# EAGLE library part AG9800 (library SKAARHOJ)
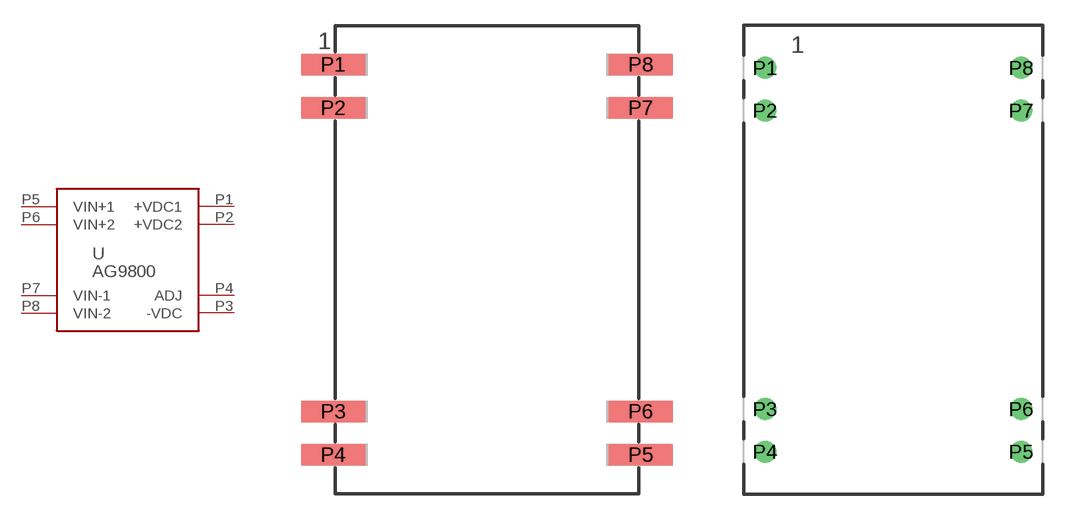
[diagram p59: symbol with the pads of AG9800; footprints AG9800, AG9800PTH]

Designator prefix -

## AG9800  [AG9800]
P1  +VDC1
P2  +VDC2
P3  -VDC
P4  ADJ  in
P5  VIN+1  pwr
P6  VIN+2  pwr
P7  VIN-1  pwr
P8  VIN-2  pwr

## AG9800PTH  [AG9800PTH]
Pads as for AG9800

## Footprint AG9800 (pad centres in mm)
smd 3.75 x 1.25: P1 -9,11.43; P2 -9,8.89; P3 -9,-8.89; P4 -9,-11.43; P5 9,-11.43; P6 9,-8.89; P7 9,8.89; P8 9,11.43

## Footprint AG9800PTH (pad centres in mm)
drill 0.8: P1 -7.62,11.43; P2 -7.62,8.89; P3 -7.62,-8.89; P4 -7.62,-11.43; P5 7.62,-11.43; P6 7.62,-8.89; P7 7.62,8.89; P8 7.62,11.43